# Altium footprint library Basic.PcbLib: 43 footprints (part 1 of 3)
Each footprint in its own frame and in the unit in brackets; x right, y up, seen from the top. Pads: shape width x height; smd on the part's side, far side on the other; paste and mask are expansions set on the pad; w line width, h text height; cw(c..) or ccw(c..) is an arc to the next point about the centre after c.
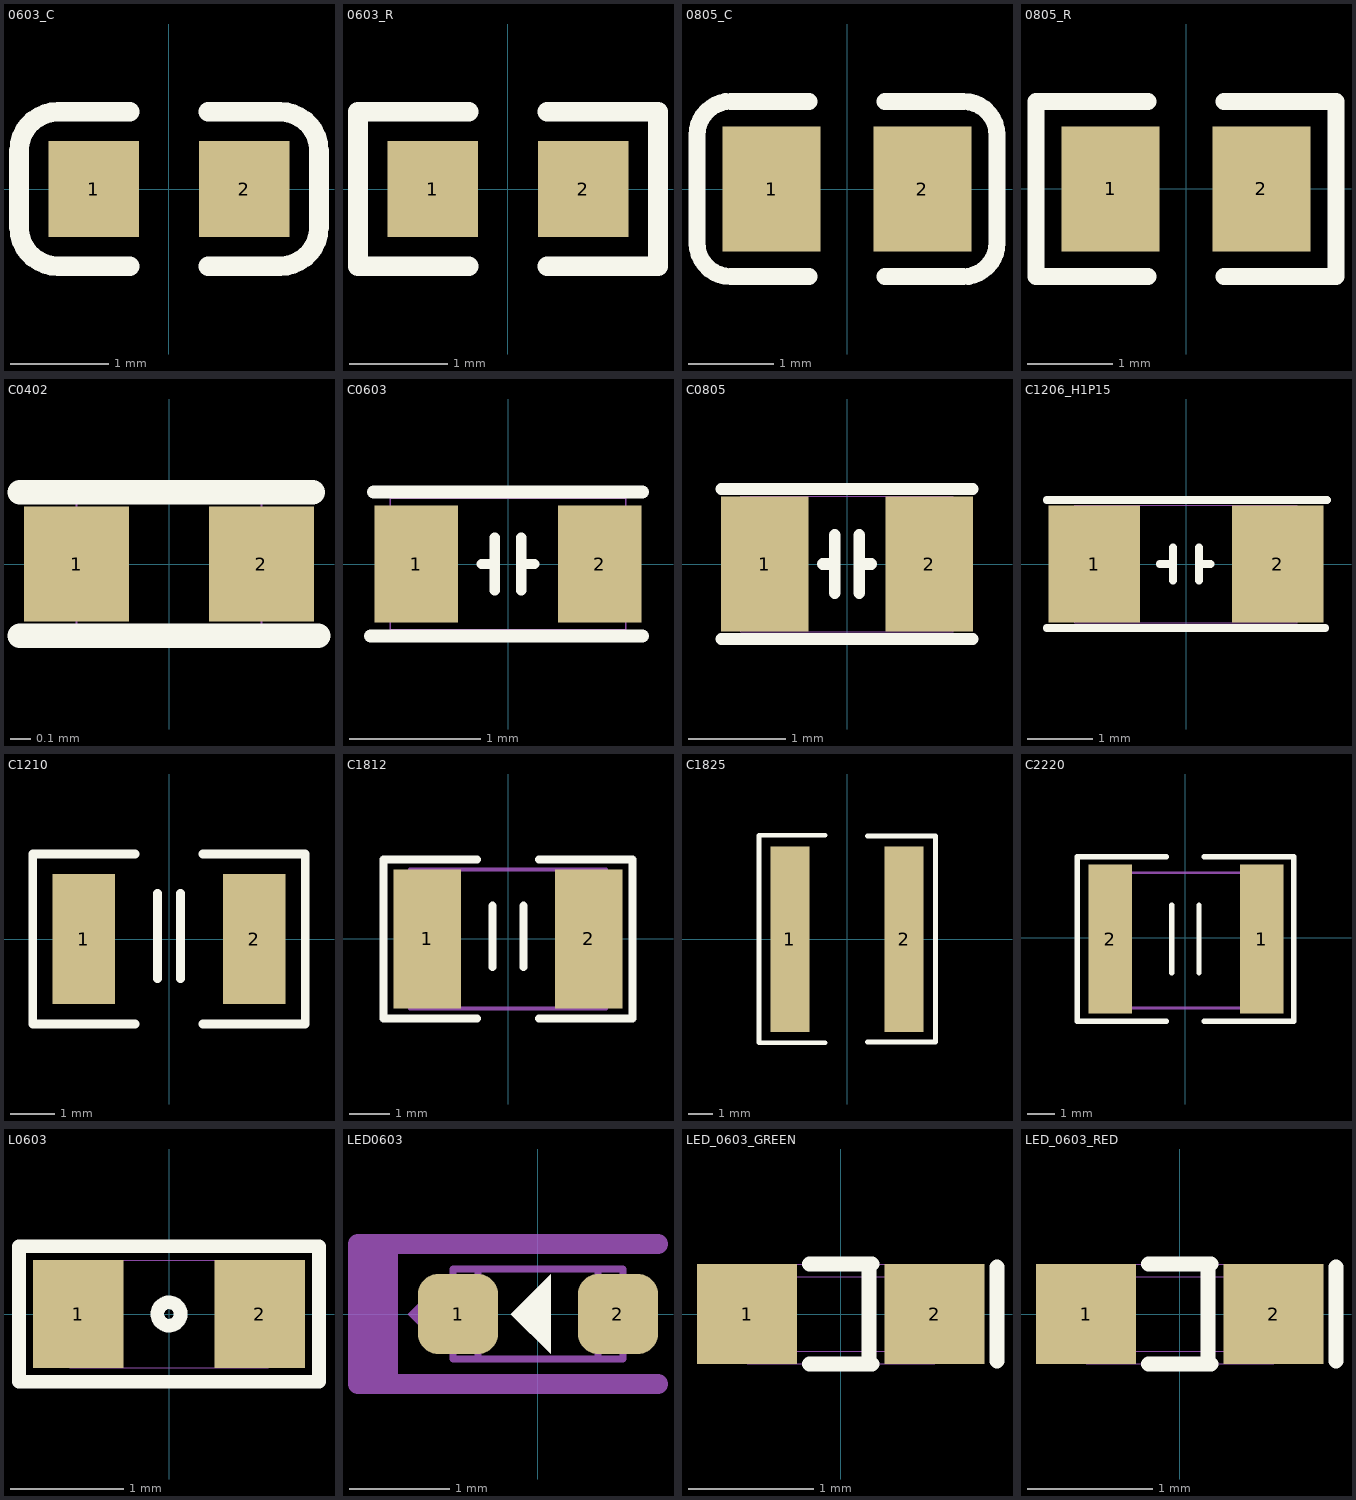
[diagram p0: the footprints below, top view; thin cyan lines are the x and y axes]

## 0603_C [mm]
height 1.1
pads (2):
  rect 0.93x0.98 smd: 1(-0.77,0) 2(0.77,0)
Top Overlay:
  lines w0.2: -0.4,-0.79 -1.135,-0.79 cw(c-1.135,-0.39) -1.535,-0.39 -1.535,0.39 cw(c-1.135,0.39) -1.135,0.79 -0.4,0.79 ; 0.4,-0.79 1.135,-0.79 ccw(c1.135,-0.39) 1.535,-0.39 1.535,0.39 ccw(c1.135,0.39) 1.135,0.79 0.4,0.79
3D body "User Library-0603 SMD Capacitor.STEP": height 0.3, standoff 0, extent -0.8,-0.4 0.8,0.4

## 0603_R [mm]
height 1.1
pads (2):
  rect 0.93x0.98 smd: 1(-0.77,0) 2(0.77,0)
Top Overlay:
  lines w0.2: -0.4,-0.79 -1.535,-0.79 -1.535,0.79 -0.4,0.79 ; 0.4,-0.79 1.535,-0.79 1.535,0.79 0.4,0.79
3D body "User Library-RES_1609-0603.STEP": height 0.56, standoff 0, extent -0.85,-0.4 0.85,0.4

## 0805_C [mm]
height 1.1
pads (2):
  rect 1.16x1.47 smd: 1(-0.89,0) 2(0.89,0)
Top Overlay:
  lines w0.2: -0.45,-1.035 -1.37,-1.035 cw(c-1.37,-0.635) -1.77,-0.635 -1.77,0.635 cw(c-1.37,0.635) -1.37,1.035 -0.45,1.035 ; 0.45,-1.035 1.37,-1.035 ccw(c1.37,-0.635) 1.77,-0.635 1.77,0.635 ccw(c1.37,0.635) 1.37,1.035 0.45,1.035
3D body "User Library-0805 SMD Capacitor.STEP": height 0.77, standoff -0.01, extent -0.999,-0.625 1.001,0.625

## 0805_R [mm]
height 1.1
pads (2):
  rect 1.16x1.47 smd: 1(-0.89,0) 2(0.89,0)
Top Overlay:
  lines w0.2: -0.45,-1.035 -1.77,-1.035 -1.77,1.035 -0.45,1.035 ; 0.45,-1.035 1.77,-1.035 1.77,1.035 0.45,1.035
3D body "User Library-R_0805.STEP": height 0.49, standoff -0.01, extent -0.997,-0.625 1.003,0.625

## C0402 [mm]
pads (2):
  rect 0.51x0.56 smd mask+0.05: 1(-0.45,0) 2(0.45,0)
Top Overlay:
  lines w0.12: -0.725,-0.35 0.725,-0.35 ; -0.725,0.35 0.7,0.35
Bottom 3D Body:
  lines w0.01: -0.45,-0.3 -0.45,0.3 0.45,0.3 0.45,-0.3 -0.45,-0.3
3D body "C0402.STEP": height 0.36, standoff 0, extent -0.5,-0.265 0.5,0.265
3D body: height 0.4, standoff 0, extent -0.455,-0.305 0.455,0.305

## C0603 [mm]
pads (2):
  rect 0.64x0.89 smd mask+0.05: 1(-0.7,0) 2(0.7,0)
Top Overlay:
  lines w0.08: -0.2,0 -0.1,0 ; -0.1,-0.2 -0.1,0.2 ; 0.1,-0.2 0.1,0.2 ; 0.1,0 0.2,0
  lines w0.1: -1.05,-0.55 1.025,-0.55 ; -1.025,0.55 1.025,0.55
Bottom 3D Body:
  lines w0.01: -0.9,-0.5 0.9,-0.5 0.9,0.5 -0.9,0.5 -0.9,-0.5
3D body: height 1.4, standoff 0, extent -0.899,-0.499 0.899,0.499
3D body "C0603.STEP": height 0.5, standoff 0, extent -0.8,-0.4 0.8,0.4

## C0805 [mm]
pads (2):
  rect 0.9x1.4 smd mask+0.05: 1(-0.85,0) 2(0.85,0)
Top Overlay:
  lines w0.12: -1.3,-0.775 1.3,-0.775 ; -1.3,0.775 1.3,0.775 ; -0.25,0 -0.15,0 ; -0.125,-0.3 -0.125,0.3 ; 0.125,-0.3 0.125,0.3 ; 0.15,0 0.25,0
Bottom 3D Body:
  lines w0.01: -1.1,-0.7 1.1,-0.7 1.1,0.7 -1.1,0.7 -1.1,-0.7
3D body: height 1.35, standoff 0, extent -1.105,-0.705 1.105,0.705
3D body "C0805_2012D.STEP": height 1.25, standoff 0, extent -1,-0.625 1,0.625

## C1206_H1P15 [mm]
pads (2):
  rect 1.4x1.78 smd mask+0.05: 1(-1.4,0) 2(1.4,0)
Top Overlay:
  lines w0.12: -2.125,-0.975 2.125,-0.975 ; -2.125,0.975 2.15,0.975 ; -0.4,0 -0.2,0 ; -0.2,-0.25 -0.2,0.25 ; 0.2,-0.25 0.2,0.25 ; 0.2,0 0.375,0
Bottom 3D Body:
  lines w0.01: -1.7,-0.9 1.7,-0.9 1.7,0.9 -1.7,0.9 -1.7,-0.9
3D body "C1206_1P10.STEP": height 1.1, standoff 0, extent -1.64,-0.8 1.64,0.8
3D body: height 1.35, standoff 0, extent -1.705,-0.905 1.705,0.905

## C1210 [mm] "公制名称为3225"
pads (2):
  rect 1.4x2.9 smd: 1(-1.905,0) 2(1.905,0)
Top Overlay:
  lines w0.2: -0.762,-1.905 -3.048,-1.905 -3.048,1.905 -0.762,1.905 ; -0.254,-0.889 -0.254,1.016 ; 0.254,-0.889 0.254,1.016 ; 0.762,-1.905 3.048,-1.905 3.048,1.905 0.762,1.905
3D body "User Library-RESC3225X06N.STEP": height 0.55, standoff 0, extent -1.6,-1.23 1.6,1.27

## C1812 [mm] "Chip Capacitor, 2-Leads, Body 4.5x3.2mm, IPC Medium Density"
height 2.54
pads (2):
  rect 1.65x3.4 smd: 1(-1.975,0) 2(1.975,0)
Top Overlay:
  lines w0.2: -0.762,-1.95 -3.05,-1.95 -3.05,1.95 -0.762,1.95 ; -0.381,-0.687 -0.381,0.813 ; 0.381,-0.687 0.381,0.813 ; 0.762,-1.95 3.05,-1.95 3.05,1.95 0.762,1.95
Top 3D Body:
  lines w0.1: -2.4,-1.7 2.4,-1.7 2.4,1.7 -2.4,1.7 -2.4,-1.7
3D body: height 2.54, standoff 0, extent -2.4,-1.7 2.4,1.7

## C1825 [mm] "贴片电容1825, 180 x 250 mil"
height 2.54
pads (2):
  rect 1.6x7.62 smd: 1(-2.34,0) 2(2.34,0)
Top Overlay:
  lines w0.2: -0.892,-4.242 -3.61,-4.242 -3.61,4.267 -0.892,4.267 ; 0.835,-4.216 3.629,-4.216 3.629,4.242 0.835,4.242
3D body "User Library-cap1825.STEP": height 1.25, standoff -0.01, extent -2.972,-3.315 2.87,3.416

## C2220 [mm]
height 1.2
pads (2):
  rect 1.6x5.5 smd: 1(2.821,-0.05) 2(-2.779,-0.05)
Top Overlay:
  lines w0.2: -0.7,-3.1 -4,-3.1 -4,3 -0.7,3 ; -0.5,-1.3 -0.5,1.2 ; 0.5,-1.3 0.5,1.2 ; 0.7,-3.1 4,-3.1 4,3 0.7,3
Top 3D Body:
  lines w0.1: -2.8,-2.6 -2.8,2.4 2.9,2.4 2.9,-2.6 -2.8,-2.6
3D body "User Library-Cap5750.STEP": height 1.6, standoff 0, extent -2.8,-2.6 2.9,2.4

## L0603 [mm]
pads (2):
  rect 0.8x0.95 smd mask+0.05: 1(-0.8,0) 2(0.8,0)
Top Overlay:
  circle w0.12: c0,0 r0.103
  lines w0.12: -1.325,-0.6 -1.325,0.6 1.325,0.6 1.325,-0.6 -1.325,-0.6
Bottom 3D Body:
  lines w0.01: -0.875,-0.475 -0.875,0.475 0.875,0.475 0.875,-0.475 -0.875,-0.475
3D body: height 0.95, standoff 0, extent -0.874,-0.474 0.874,0.474
3D body "L0603.STEP": height 0.5, standoff 0, extent -0.8,-0.4 0.8,0.4

## LED0603 [mm]
pads (2):
  rrect50% 0.8x0.8 smd: 1(-0.8,0) 2(0.8,0)
Top Overlay:
  region: 0.127,-0.4 0.127,0.4 -0.273,0
Top 3D Body:
  lines w0.07: -0.6,-0.45 -0.6,0.45 ; 0.6,-0.45 0.6,0.45 ; -0.85,-0.45 0.85,-0.45 0.85,0.45 -0.85,0.45 -0.85,-0.45
Top Component Outline:
  region: -0.9,-0.4 -0.9,0.4 -1.3,0
  lines w0.2: -1.65,-0.7 -1.65,0.55 ; 1.2,-0.7 -1.5,-0.7 ; 1.2,0.7 -1.5,0.7 ; -1.5,-0.7 -1.5,0.7 ; -1.5,-0.7 -1.8,-0.7 -1.8,0.7 -1.5,0.7
3D body: height 0.8, standoff 0.35, extent -0.599,-0.449 0.599,0.449
3D body: height 0.35, standoff 0, extent -0.599,-0.449 0.599,0.449
3D body: height 0.36, standoff 0.35, extent -0.599,-0.449 0.599,0.449
3D body: height 0.35, standoff 0, extent 0.601,-0.449 0.849,0.449
3D body: height 0.35, standoff 0, extent -0.849,-0.449 -0.601,0.449

## LED_0603_GREEN [mm]
pads (2):
  rect 0.8x0.8 smd mask+0.05: 1(-0.75,0) 2(0.75,0)
Top Overlay:
  lines w0.12: -0.25,-0.4 0.25,-0.4 0.225,-0.4 0.225,0.4 ; -0.25,0.4 0.25,0.4 ; 1.25,-0.375 1.25,0.375
Bottom 3D Body:
  lines w0.01: 0.55,-0.3 0.55,0.3 ; 0.6,-0.3 0.6,0.3 ; -0.75,-0.4 -0.65,-0.3 ; -0.75,-0.4 0.75,-0.4 ; -0.75,-0.4 -0.75,0.4 ; -0.75,0.4 -0.65,0.3 ; -0.75,0.4 0.75,0.4 ; -0.65,-0.3 0.65,-0.3 ; -0.65,-0.3 -0.65,0.3 ; -0.65,0.3 0.65,0.3 ; 0.65,-0.3 0.75,-0.4 ; 0.65,-0.3 0.65,0.3 ; 0.65,0.3 0.75,0.4 ; 0.75,-0.4 0.75,0.4
  text "K" at 0.8,-0.2 h0.75
3D body: height 0.6, standoff 0, extent -0.755,-0.405 0.755,0.405
3D body "LED_0603_GREEN.STEP": height 0.6, standoff 0, extent -0.8,-0.4 0.8,0.4

## LED_0603_RED [mm]
pads (2):
  rect 0.8x0.8 smd mask+0.05: 1(-0.75,0) 2(0.75,0)
Top Overlay:
  lines w0.12: -0.25,-0.4 0.25,-0.4 0.225,-0.4 0.225,0.4 ; -0.25,0.4 0.25,0.4 ; 1.25,-0.375 1.25,0.375
Bottom 3D Body:
  lines w0.01: 0.55,-0.3 0.55,0.3 ; 0.6,-0.3 0.6,0.3 ; -0.75,-0.4 -0.75,0.4 ; -0.75,-0.4 0.75,-0.4 ; -0.75,-0.4 -0.65,-0.3 ; -0.75,0.4 0.75,0.4 ; -0.75,0.4 -0.65,0.3 ; -0.65,-0.3 -0.65,0.3 ; -0.65,-0.3 0.65,-0.3 ; -0.65,0.3 0.65,0.3 ; 0.65,-0.3 0.65,0.3 ; 0.65,-0.3 0.75,-0.4 ; 0.65,0.3 0.75,0.4 ; 0.75,-0.4 0.75,0.4
  text "K" at 0.8,-0.2 h0.75
3D body "LED_0603_RED.STEP": height 0.6, standoff 0, extent -0.8,-0.4 0.8,0.4
3D body: height 0.6, standoff 0, extent -0.755,-0.405 0.755,0.405